# EAGLE library part 691325310006 (library Wuerth_Elektronik_eiCan_Terminal_Blocks_v2.0)
WR-TBL Serie 3253 - 3.81mm Vertical PCB Header with Flanges, 6 Pins
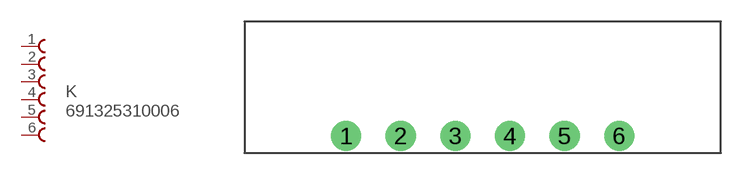
[diagram p57: symbol with the pads of 691325310006; footprint 691325310006]

Designator prefix K

## 691325310006  [691325310006]
1  1  pas
2  2  pas
3  3  pas
4  4  pas
5  5  pas
6  6  pas

## Footprint 691325310006 (pad centres in mm)
WR-TBL Serie 3253 - 3.81mm Vertical PCB Header with Flanges, 6 Pins
drill 1.4 round: 1 -3.81,0; 2 0,0; 3 3.81,0; 4 7.62,0; 5 11.43,0; 6 15.24,0